# EAGLE library part A3977SED (library stepper_drivers_etc)
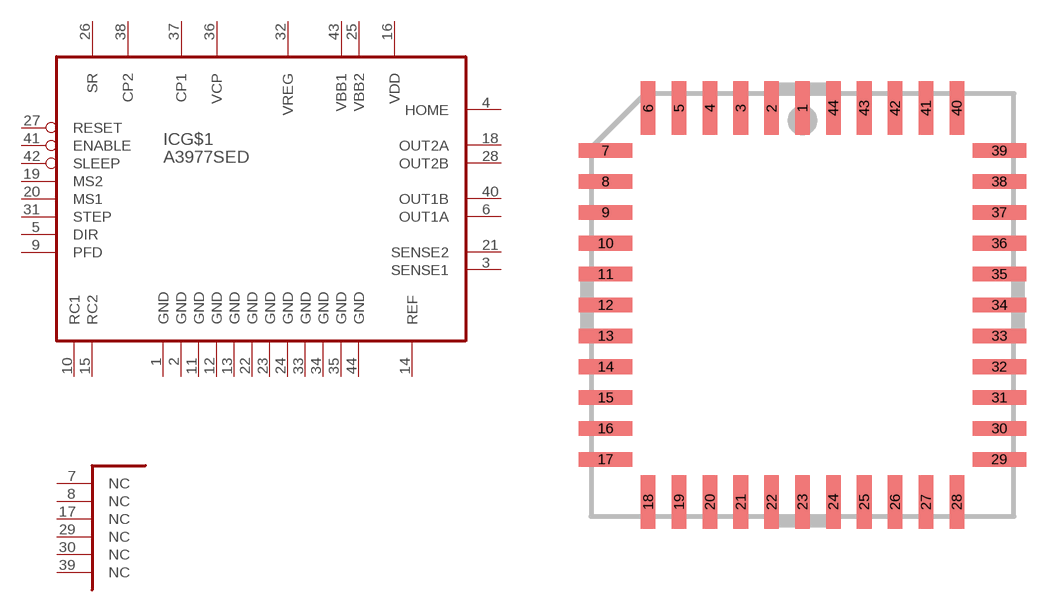
[diagram p13: symbol with the pads of PLCC44SPW; footprint PLCC44SPW]

Designator prefix IC; gates G$1=A3977 G$2=A3977NC

## A3977SED  [PLCC44SPW]
1  G$1:GND  pwr
2  G$1:GND  pwr
3  G$1:SENSE1  in
4  G$1:HOME  out
5  G$1:DIR  in
6  G$1:OUT1A  out
7  G$2:NC  nc
8  G$2:NC  nc
9  G$1:PFD  in
10  G$1:RC1  in
11  G$1:GND  pwr
12  G$1:GND  pwr
13  G$1:GND  pwr
14  G$1:REF  in
15  G$1:RC2  in
16  G$1:VDD  pwr
17  G$2:NC  nc
18  G$1:OUT2A  out
19  G$1:MS2  in
20  G$1:MS1  in
21  G$1:SENSE2  in
22  G$1:GND  pwr
23  G$1:GND  pwr
24  G$1:GND  pwr
25  G$1:VBB2  pwr
26  G$1:SR  in
27  G$1:RESET  in
28  G$1:OUT2B  out
29  G$2:NC  nc
30  G$2:NC  nc
31  G$1:STEP  in
32  G$1:VREG  pwr
33  G$1:GND  pwr
34  G$1:GND  pwr
35  G$1:GND  pwr
36  G$1:VCP  pwr
37  G$1:CP1  pwr
38  G$1:CP2  pwr
39  G$2:NC  nc
40  G$1:OUT1B  out
41  G$1:ENABLE  in
42  G$1:SLEEP  in
43  G$1:VBB1  pwr
44  G$1:GND  pwr

## Footprint PLCC44SPW (pad centres in mm)
smd 0.6 x 2.2: 1 0,8.1; 2 -1.27,8.1; 3 -2.54,8.1; 4 -3.81,8.1; 5 -5.08,8.1; 6 -6.35,8.1; 18 -6.35,-8.1; 19 -5.08,-8.1; 20 -3.81,-8.1; 21 -2.54,-8.1; 22 -1.27,-8.1; 23 0,-8.1; 24 1.27,-8.1; 25 2.54,-8.1; 26 3.81,-8.1; 27 5.08,-8.1; 28 6.35,-8.1; 40 6.35,8.1; 41 5.08,8.1; 42 3.81,8.1; 43 2.54,8.1; 44 1.27,8.1
smd 2.2 x 0.6: 7 -8.1,6.35; 8 -8.1,5.08; 9 -8.1,3.81; 10 -8.1,2.54; 11 -8.1,1.27; 12 -8.1,0; 13 -8.1,-1.27; 14 -8.1,-2.54; 15 -8.1,-3.81; 16 -8.1,-5.08; 17 -8.1,-6.35; 29 8.1,-6.35; 30 8.1,-5.08; 31 8.1,-3.81; 32 8.1,-2.54; 33 8.1,-1.27; 34 8.1,0; 35 8.1,1.27; 36 8.1,2.54; 37 8.1,3.81; 38 8.1,5.08; 39 8.1,6.35